# Altium integrated library BM10B-SRSS-TB_LF__SN_.IntLib: 1 symbol
Pins are listed as number, name and electrical type; pins without a type are passive.

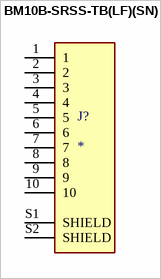
[diagram p0: symbol BM10B-SRSS-TB(LF)(SN)]

## BM10B-SRSS-TB(LF)(SN)
designator J?
Connector Header Surface Mount 10 position 0.039 (1.00mm); MP: BM10B-SRSS-TB(LF)(SN); MF: JST Sales; Package: None; Check_prices: https://www.snapeda.com/parts/BM10B-SRSS-TB(LF)(SN)/JST+Sales+America+Inc./view-part/?ref=eda; SnapEDA_Link: https://www.snapeda.com/parts/BM10B-SRSS-TB(LF)(SN)/JST+Sales+America+Inc./view-part/?ref=snap; Availability: In Stock; Price: None; Value: *
footprint JST_BM10B-SRSS-TB(LF)(SN)
pins: 1, 2, 3, 4, 5, 6, 7, 8, 9, 10, S1 SHIELD, S2 SHIELD